# Altium integrated library Altium_WCAP-CSGP (rev19a).IntLib: 938 symbols (part 6 of 16)
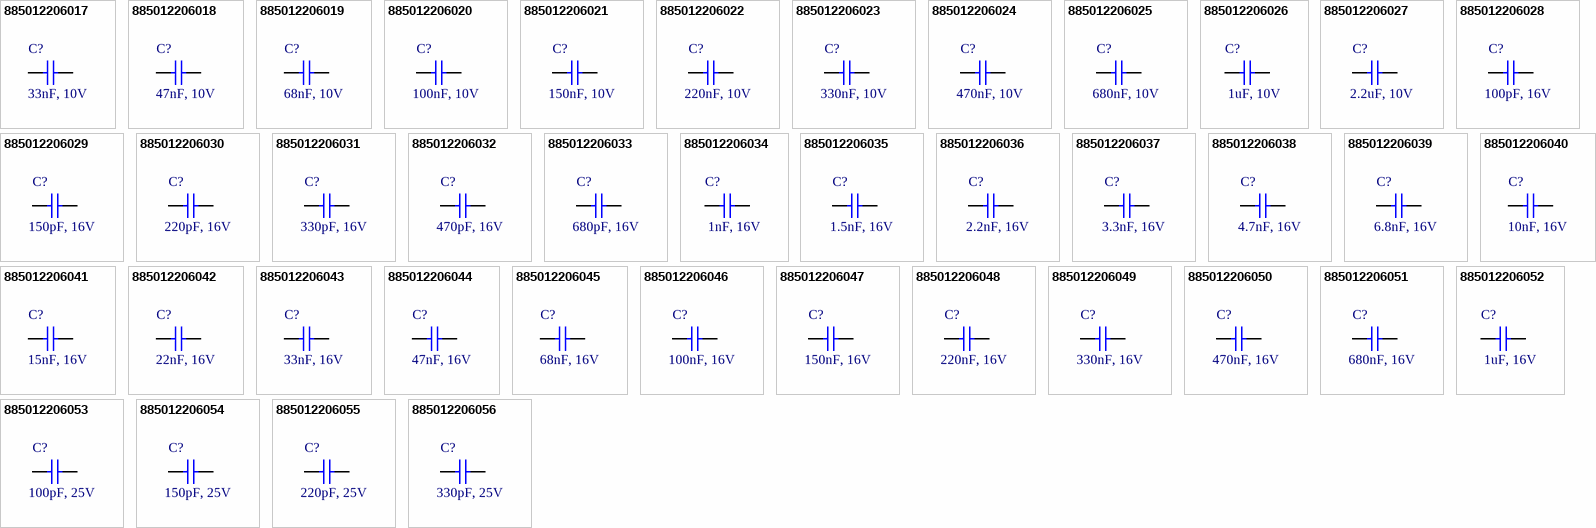
[diagram p32: symbols 885012206017 to 885012206056]

## 885012206045
designator C?, comment 68nF, 16V
WCAP-CSGP General Purpose Ceramic Capacitors, size 0603, 68nF, +/-10%, 16VDC; Part Number: 885012206045; Isolation Resistance: >=7.4GOhm; Ceramic Type: X7R; Technical Reference: X7R0603683K016DFCT10000; ComponentLink1Description: Manufacturer; ComponentLink1URL: http://www.we-online.de; ComponentLink2Description: Datasheet; ComponentLink2URL: https://katalog.we-online.com/pbs/datasheet/885012206045.pdf; Operating Temperature: -55 to +125degC; Packaging: Tape and Reel; Publisher: Wurth Elektronik; Rated Voltage: 16VDC; Published Date: August 2019; Capacitance Tolerance: +/-10%; Dissipation Factor: =<3.5%; Height: 0.8mm +/-0.07mm; Mounting Technology: SMD; Size: 0603; Capacitance: 68nF
footprint WCAP-CSGP_0603_Wave
footprint WCAP-CSGP_0603_Reflow
pins: 1, 2

## 885012206046
designator C?, comment 100nF, 16V
WCAP-CSGP General Purpose Ceramic Capacitors, size 0603, 100nF, +/-10%, 16VDC; Part Number: 885012206046; Isolation Resistance: >=5GOhm; Ceramic Type: X7R; Technical Reference: X7R0603104K016DFCT10000; ComponentLink1Description: Manufacturer; ComponentLink1URL: http://www.we-online.de; ComponentLink2Description: Datasheet; ComponentLink2URL: https://katalog.we-online.com/pbs/datasheet/885012206046.pdf; Operating Temperature: -55 to +125degC; Packaging: Tape and Reel; Publisher: Wurth Elektronik; Rated Voltage: 16VDC; Published Date: August 2019; Capacitance Tolerance: +/-10%; Dissipation Factor: =<3.5%; Height: 0.8mm +/-0.07mm; Mounting Technology: SMD; Size: 0603; Capacitance: 100nF
footprint WCAP-CSGP_0603_Wave
footprint WCAP-CSGP_0603_Reflow
pins: 1, 2

## 885012206047
designator C?, comment 150nF, 16V
WCAP-CSGP General Purpose Ceramic Capacitors, size 0603, 150nF, +/-10%, 16VDC; Part Number: 885012206047; Isolation Resistance: >=3.3GOhm; Ceramic Type: X7R; Technical Reference: X7R0603154K016DFCT10000; ComponentLink1Description: Manufacturer; ComponentLink1URL: http://www.we-online.de; ComponentLink2Description: Datasheet; ComponentLink2URL: https://katalog.we-online.com/pbs/datasheet/885012206047.pdf; Operating Temperature: -55 to +125degC; Packaging: Tape and Reel; Publisher: Wurth Elektronik; Rated Voltage: 16VDC; Published Date: August 2019; Capacitance Tolerance: +/-10%; Dissipation Factor: =<5%; Height: 0.8mm +/-0.07mm; Mounting Technology: SMD; Size: 0603; Capacitance: 150nF
footprint WCAP-CSGP_0603_Wave
footprint WCAP-CSGP_0603_Reflow
pins: 1, 2

## 885012206048
designator C?, comment 220nF, 16V
WCAP-CSGP General Purpose Ceramic Capacitors, size 0603, 220nF, +/-10%, 16VDC; Part Number: 885012206048; Isolation Resistance: >=2.3GOhm; Ceramic Type: X7R; Technical Reference: X7R0603224K016DFCT10000; ComponentLink1Description: Manufacturer; ComponentLink1URL: http://www.we-online.de; ComponentLink2Description: Datasheet; ComponentLink2URL: https://katalog.we-online.com/pbs/datasheet/885012206048.pdf; Operating Temperature: -55 to +125degC; Packaging: Tape and Reel; Publisher: Wurth Elektronik; Rated Voltage: 16VDC; Published Date: August 2019; Capacitance Tolerance: +/-10%; Dissipation Factor: =<5%; Height: 0.8mm +/-0.07mm; Mounting Technology: SMD; Size: 0603; Capacitance: 220nF
footprint WCAP-CSGP_0603_Wave
footprint WCAP-CSGP_0603_Reflow
pins: 1, 2

## 885012206049
designator C?, comment 330nF, 16V
WCAP-CSGP General Purpose Ceramic Capacitors, size 0603, 330nF, +/-10%, 16VDC; Part Number: 885012206049; Isolation Resistance: >=1.5GOhm; Ceramic Type: X7R; Technical Reference: X7R0603334K016DFCT10000; ComponentLink1Description: Manufacturer; ComponentLink1URL: http://www.we-online.de; ComponentLink2Description: Datasheet; ComponentLink2URL: https://katalog.we-online.com/pbs/datasheet/885012206049.pdf; Operating Temperature: -55 to +125degC; Packaging: Tape and Reel; Publisher: Wurth Elektronik; Rated Voltage: 16VDC; Published Date: August 2019; Capacitance Tolerance: +/-10%; Dissipation Factor: =<5%; Height: 0.8mm +0.15/-0.10mm; Mounting Technology: SMD; Size: 0603; Capacitance: 330nF
footprint WCAP-CSGP_0603_Wave
footprint WCAP-CSGP_0603_Reflow
pins: 1, 2

## 885012206050
designator C?, comment 470nF, 16V
WCAP-CSGP General Purpose Ceramic Capacitors, size 0603, 470nF, +/-10%, 16VDC; Part Number: 885012206050; Isolation Resistance: >=1.1GOhm; Ceramic Type: X7R; Technical Reference: X7R0603474K016DFCT10000; ComponentLink1Description: Manufacturer; ComponentLink1URL: http://www.we-online.de; ComponentLink2Description: Datasheet; ComponentLink2URL: https://katalog.we-online.com/pbs/datasheet/885012206050.pdf; Operating Temperature: -55 to +125degC; Packaging: Tape and Reel; Publisher: Wurth Elektronik; Rated Voltage: 16VDC; Published Date: August 2019; Capacitance Tolerance: +/-10%; Dissipation Factor: =<5%; Height: 0.8mm +0.15/-0.10mm; Mounting Technology: SMD; Size: 0603; Capacitance: 470nF
footprint WCAP-CSGP_0603_Wave
footprint WCAP-CSGP_0603_Reflow
pins: 1, 2

## 885012206051
designator C?, comment 680nF, 16V
WCAP-CSGP General Purpose Ceramic Capacitors, size 0603, 680nF, +/-10%, 16VDC; Part Number: 885012206051; Isolation Resistance: >=0.7GOhm; Ceramic Type: X7R; Technical Reference: X7R0603684K016DFCT10000; ComponentLink1Description: Manufacturer; ComponentLink1URL: http://www.we-online.de; ComponentLink2Description: Datasheet; ComponentLink2URL: https://katalog.we-online.com/pbs/datasheet/885012206051.pdf; Operating Temperature: -55 to +125degC; Packaging: Tape and Reel; Publisher: Wurth Elektronik; Rated Voltage: 16VDC; Published Date: August 2019; Capacitance Tolerance: +/-10%; Dissipation Factor: =<10%; Height: 0.8mm +0.15/-0.10mm; Mounting Technology: SMD; Size: 0603; Capacitance: 680nF
footprint WCAP-CSGP_0603_Wave
footprint WCAP-CSGP_0603_Reflow
pins: 1, 2

## 885012206052
designator C?, comment 1uF, 16V
WCAP-CSGP General Purpose Ceramic Capacitors, size 0603, 1uF, +/-10%, 16VDC; Part Number: 885012206052; Isolation Resistance: >=0.1GOhm; Ceramic Type: X7R; Technical Reference: X7R0603105K016DFCT10000; ComponentLink1Description: Manufacturer; ComponentLink1URL: http://www.we-online.de; ComponentLink2Description: Datasheet; ComponentLink2URL: https://katalog.we-online.com/pbs/datasheet/885012206052.pdf; Operating Temperature: -55 to +125degC; Packaging: Tape and Reel; Publisher: Wurth Elektronik; Rated Voltage: 16VDC; Published Date: August 2019; Capacitance Tolerance: +/-10%; Dissipation Factor: =<10%; Height: 0.8mm +0.15/-0.10mm; Mounting Technology: SMD; Size: 0603; Capacitance: 1uF
footprint WCAP-CSGP_0603_Wave
footprint WCAP-CSGP_0603_Reflow
pins: 1, 2

## 885012206053
designator C?, comment 100pF, 25V
WCAP-CSGP General Purpose Ceramic Capacitors, size 0603, 100pF, +/-10%, 25VDC; Part Number: 885012206053; Isolation Resistance: >=10GOhm; Ceramic Type: X7R; Technical Reference: X7R0603101K025DFCT10000; ComponentLink1Description: Manufacturer; ComponentLink1URL: http://www.we-online.de; ComponentLink2Description: Datasheet; ComponentLink2URL: https://katalog.we-online.com/pbs/datasheet/885012206053.pdf; Operating Temperature: -55 to +125degC; Packaging: Tape and Reel; Publisher: Wurth Elektronik; Rated Voltage: 25VDC; Published Date: August 2019; Capacitance Tolerance: +/-10%; Dissipation Factor: =<3.5%; Height: 0.8mm +/-0.07mm; Mounting Technology: SMD; Size: 0603; Capacitance: 100pF
footprint WCAP-CSGP_0603_Wave
footprint WCAP-CSGP_0603_Reflow
pins: 1, 2

## 885012206054
designator C?, comment 150pF, 25V
WCAP-CSGP General Purpose Ceramic Capacitors, size 0603, 150pF, +/-10%, 25VDC; Part Number: 885012206054; Isolation Resistance: >=10GOhm; Ceramic Type: X7R; Technical Reference: X7R0603151K025DFCT10000; ComponentLink1Description: Manufacturer; ComponentLink1URL: http://www.we-online.de; ComponentLink2Description: Datasheet; ComponentLink2URL: https://katalog.we-online.com/pbs/datasheet/885012206054.pdf; Operating Temperature: -55 to +125degC; Packaging: Tape and Reel; Publisher: Wurth Elektronik; Rated Voltage: 25VDC; Published Date: August 2019; Capacitance Tolerance: +/-10%; Dissipation Factor: =<3.5%; Height: 0.8mm +/-0.07mm; Mounting Technology: SMD; Size: 0603; Capacitance: 150pF
footprint WCAP-CSGP_0603_Wave
footprint WCAP-CSGP_0603_Reflow
pins: 1, 2

## 885012206055
designator C?, comment 220pF, 25V
WCAP-CSGP General Purpose Ceramic Capacitors, size 0603, 220pF, +/-10%, 25VDC; Part Number: 885012206055; Isolation Resistance: >=10GOhm; Ceramic Type: X7R; Technical Reference: X7R0603221K025DFCT10000; ComponentLink1Description: Manufacturer; ComponentLink1URL: http://www.we-online.de; ComponentLink2Description: Datasheet; ComponentLink2URL: https://katalog.we-online.com/pbs/datasheet/885012206055.pdf; Operating Temperature: -55 to +125degC; Packaging: Tape and Reel; Publisher: Wurth Elektronik; Rated Voltage: 25VDC; Published Date: August 2019; Capacitance Tolerance: +/-10%; Dissipation Factor: =<3.5%; Height: 0.8mm +/-0.07mm; Mounting Technology: SMD; Size: 0603; Capacitance: 220pF
footprint WCAP-CSGP_0603_Wave
footprint WCAP-CSGP_0603_Reflow
pins: 1, 2

## 885012206056
designator C?, comment 330pF, 25V
WCAP-CSGP General Purpose Ceramic Capacitors, size 0603, 330pF, +/-10%, 25VDC; Part Number: 885012206056; Isolation Resistance: >=10GOhm; Ceramic Type: X7R; Technical Reference: X7R0603331K025DFCT10000; ComponentLink1Description: Manufacturer; ComponentLink1URL: http://www.we-online.de; ComponentLink2Description: Datasheet; ComponentLink2URL: https://katalog.we-online.com/pbs/datasheet/885012206056.pdf; Operating Temperature: -55 to +125degC; Packaging: Tape and Reel; Publisher: Wurth Elektronik; Rated Voltage: 25VDC; Published Date: August 2019; Capacitance Tolerance: +/-10%; Dissipation Factor: =<3.5%; Height: 0.8mm +/-0.07mm; Mounting Technology: SMD; Size: 0603; Capacitance: 330pF
footprint WCAP-CSGP_0603_Wave
footprint WCAP-CSGP_0603_Reflow
pins: 1, 2

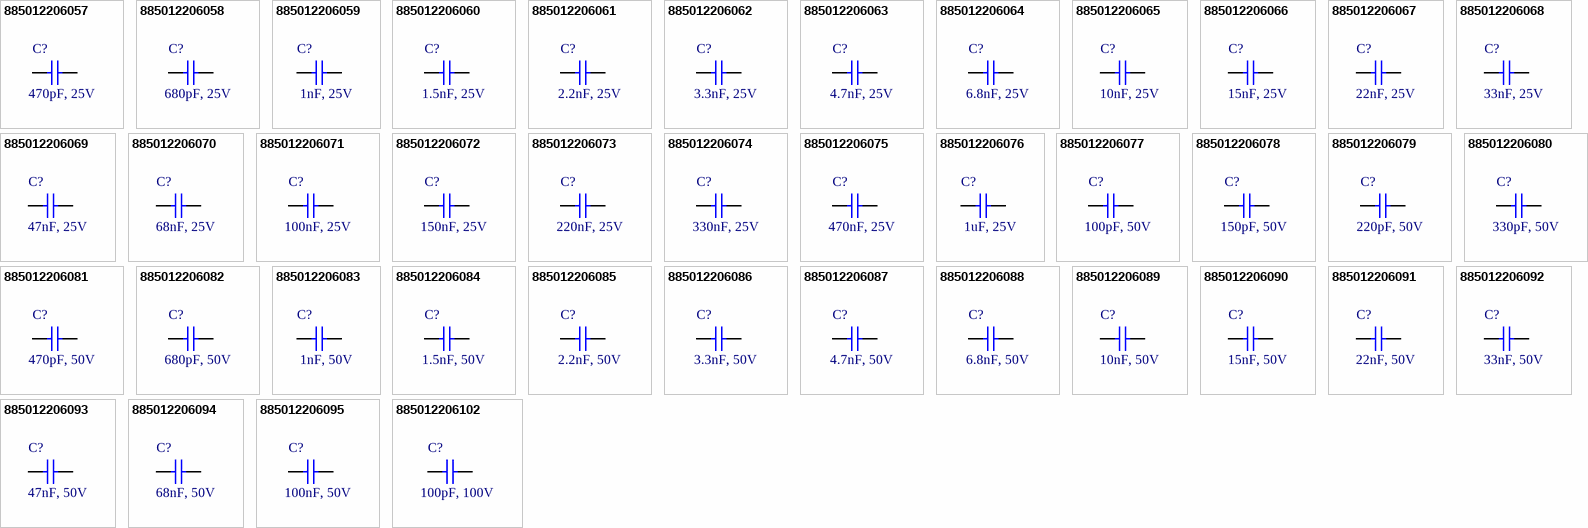
[diagram p9: symbols 885012206057 to 885012206102]

## 885012206057
designator C?, comment 470pF, 25V
WCAP-CSGP General Purpose Ceramic Capacitors, size 0603, 470pF, +/-10%, 25VDC; Part Number: 885012206057; Isolation Resistance: >=10GOhm; Ceramic Type: X7R; Technical Reference: X7R0603471K025DFCT10000; ComponentLink1Description: Manufacturer; ComponentLink1URL: http://www.we-online.de; ComponentLink2Description: Datasheet; ComponentLink2URL: https://katalog.we-online.com/pbs/datasheet/885012206057.pdf; Operating Temperature: -55 to +125degC; Packaging: Tape and Reel; Publisher: Wurth Elektronik; Rated Voltage: 25VDC; Published Date: August 2019; Capacitance Tolerance: +/-10%; Dissipation Factor: =<3.5%; Height: 0.8mm +/-0.07mm; Mounting Technology: SMD; Size: 0603; Capacitance: 470pF
footprint WCAP-CSGP_0603_Wave
footprint WCAP-CSGP_0603_Reflow
pins: 1, 2

## 885012206058
designator C?, comment 680pF, 25V
WCAP-CSGP General Purpose Ceramic Capacitors, size 0603, 680pF, +/-10%, 25VDC; Part Number: 885012206058; Isolation Resistance: >=10GOhm; Ceramic Type: X7R; Technical Reference: X7R0603681K025DFCT10000; ComponentLink1Description: Manufacturer; ComponentLink1URL: http://www.we-online.de; ComponentLink2Description: Datasheet; ComponentLink2URL: https://katalog.we-online.com/pbs/datasheet/885012206058.pdf; Operating Temperature: -55 to +125degC; Packaging: Tape and Reel; Publisher: Wurth Elektronik; Rated Voltage: 25VDC; Published Date: August 2019; Capacitance Tolerance: +/-10%; Dissipation Factor: =<3.5%; Height: 0.8mm +/-0.07mm; Mounting Technology: SMD; Size: 0603; Capacitance: 680pF
footprint WCAP-CSGP_0603_Wave
footprint WCAP-CSGP_0603_Reflow
pins: 1, 2

## 885012206059
designator C?, comment 1nF, 25V
WCAP-CSGP General Purpose Ceramic Capacitors, size 0603, 1nF, +/-10%, 25VDC; Part Number: 885012206059; Isolation Resistance: >=10GOhm; Ceramic Type: X7R; Technical Reference: X7R0603102K025DFCT10000; ComponentLink1Description: Manufacturer; ComponentLink1URL: http://www.we-online.de; ComponentLink2Description: Datasheet; ComponentLink2URL: https://katalog.we-online.com/pbs/datasheet/885012206059.pdf; Operating Temperature: -55 to +125degC; Packaging: Tape and Reel; Publisher: Wurth Elektronik; Rated Voltage: 25VDC; Published Date: August 2019; Capacitance Tolerance: +/-10%; Dissipation Factor: =<3.5%; Height: 0.8mm +/-0.07mm; Mounting Technology: SMD; Size: 0603; Capacitance: 1nF
footprint WCAP-CSGP_0603_Wave
footprint WCAP-CSGP_0603_Reflow
pins: 1, 2

## 885012206060
designator C?, comment 1.5nF, 25V
WCAP-CSGP General Purpose Ceramic Capacitors, size 0603, 1.5nF, +/-10%, 25VDC; Part Number: 885012206060; Isolation Resistance: >=10GOhm; Ceramic Type: X7R; Technical Reference: X7R0603152K025DFCT10000; ComponentLink1Description: Manufacturer; ComponentLink1URL: http://www.we-online.de; ComponentLink2Description: Datasheet; ComponentLink2URL: https://katalog.we-online.com/pbs/datasheet/885012206060.pdf; Operating Temperature: -55 to +125degC; Packaging: Tape and Reel; Publisher: Wurth Elektronik; Rated Voltage: 25VDC; Published Date: August 2019; Capacitance Tolerance: +/-10%; Dissipation Factor: =<3.5%; Height: 0.8mm +/-0.07mm; Mounting Technology: SMD; Size: 0603; Capacitance: 1.5nF
footprint WCAP-CSGP_0603_Wave
footprint WCAP-CSGP_0603_Reflow
pins: 1, 2

## 885012206061
designator C?, comment 2.2nF, 25V
WCAP-CSGP General Purpose Ceramic Capacitors, size 0603, 2.2nF, +/-10%, 25VDC; Part Number: 885012206061; Isolation Resistance: >=10GOhm; Ceramic Type: X7R; Technical Reference: X7R0603222K025DFCT10000; ComponentLink1Description: Manufacturer; ComponentLink1URL: http://www.we-online.de; ComponentLink2Description: Datasheet; ComponentLink2URL: https://katalog.we-online.com/pbs/datasheet/885012206061.pdf; Operating Temperature: -55 to +125degC; Packaging: Tape and Reel; Publisher: Wurth Elektronik; Rated Voltage: 25VDC; Published Date: August 2019; Capacitance Tolerance: +/-10%; Dissipation Factor: =<3.5%; Height: 0.8mm +/-0.07mm; Mounting Technology: SMD; Size: 0603; Capacitance: 2.2nF
footprint WCAP-CSGP_0603_Wave
footprint WCAP-CSGP_0603_Reflow
pins: 1, 2

## 885012206062
designator C?, comment 3.3nF, 25V
WCAP-CSGP General Purpose Ceramic Capacitors, size 0603, 3.3nF, +/-10%, 25VDC; Part Number: 885012206062; Isolation Resistance: >=10GOhm; Ceramic Type: X7R; Technical Reference: X7R0603332K025DFCT10000; ComponentLink1Description: Manufacturer; ComponentLink1URL: http://www.we-online.de; ComponentLink2Description: Datasheet; ComponentLink2URL: https://katalog.we-online.com/pbs/datasheet/885012206062.pdf; Operating Temperature: -55 to +125degC; Packaging: Tape and Reel; Publisher: Wurth Elektronik; Rated Voltage: 25VDC; Published Date: August 2019; Capacitance Tolerance: +/-10%; Dissipation Factor: =<3.5%; Height: 0.8mm +/-0.07mm; Mounting Technology: SMD; Size: 0603; Capacitance: 3.3nF
footprint WCAP-CSGP_0603_Wave
footprint WCAP-CSGP_0603_Reflow
pins: 1, 2

## 885012206063
designator C?, comment 4.7nF, 25V
WCAP-CSGP General Purpose Ceramic Capacitors, size 0603, 4.7nF, +/-10%, 25VDC; Part Number: 885012206063; Isolation Resistance: >=10GOhm; Ceramic Type: X7R; Technical Reference: X7R0603472K025DFCT10000; ComponentLink1Description: Manufacturer; ComponentLink1URL: http://www.we-online.de; ComponentLink2Description: Datasheet; ComponentLink2URL: https://katalog.we-online.com/pbs/datasheet/885012206063.pdf; Operating Temperature: -55 to +125degC; Packaging: Tape and Reel; Publisher: Wurth Elektronik; Rated Voltage: 25VDC; Published Date: August 2019; Capacitance Tolerance: +/-10%; Dissipation Factor: =<3.5%; Height: 0.8mm +/-0.07mm; Mounting Technology: SMD; Size: 0603; Capacitance: 4.7nF
footprint WCAP-CSGP_0603_Wave
footprint WCAP-CSGP_0603_Reflow
pins: 1, 2

## 885012206064
designator C?, comment 6.8nF, 25V
WCAP-CSGP General Purpose Ceramic Capacitors, size 0603, 6.8nF, +/-10%, 25VDC; Part Number: 885012206064; Isolation Resistance: >=10GOhm; Ceramic Type: X7R; Technical Reference: X7R0603682K025DFCT10000; ComponentLink1Description: Manufacturer; ComponentLink1URL: http://www.we-online.de; ComponentLink2Description: Datasheet; ComponentLink2URL: https://katalog.we-online.com/pbs/datasheet/885012206064.pdf; Operating Temperature: -55 to +125degC; Packaging: Tape and Reel; Publisher: Wurth Elektronik; Rated Voltage: 25VDC; Published Date: August 2019; Capacitance Tolerance: +/-10%; Dissipation Factor: =<3.5%; Height: 0.8mm +/-0.07mm; Mounting Technology: SMD; Size: 0603; Capacitance: 6.8nF
footprint WCAP-CSGP_0603_Wave
footprint WCAP-CSGP_0603_Reflow
pins: 1, 2

## 885012206065
designator C?, comment 10nF, 25V
WCAP-CSGP General Purpose Ceramic Capacitors, size 0603, 10nF, +/-10%, 25VDC; Part Number: 885012206065; Isolation Resistance: >=10GOhm; Ceramic Type: X7R; Technical Reference: X7R0603103K025DFCT10000; ComponentLink1Description: Manufacturer; ComponentLink1URL: http://www.we-online.de; ComponentLink2Description: Datasheet; ComponentLink2URL: https://katalog.we-online.com/pbs/datasheet/885012206065.pdf; Operating Temperature: -55 to +125degC; Packaging: Tape and Reel; Publisher: Wurth Elektronik; Rated Voltage: 25VDC; Published Date: August 2019; Capacitance Tolerance: +/-10%; Dissipation Factor: =<3.5%; Height: 0.8mm +/-0.07mm; Mounting Technology: SMD; Size: 0603; Capacitance: 10nF
footprint WCAP-CSGP_0603_Wave
footprint WCAP-CSGP_0603_Reflow
pins: 1, 2

## 885012206066
designator C?, comment 15nF, 25V
WCAP-CSGP General Purpose Ceramic Capacitors, size 0603, 15nF, +/-10%, 25VDC; Part Number: 885012206066; Isolation Resistance: >=10GOhm; Ceramic Type: X7R; Technical Reference: X7R0603153K025DFCT10000; ComponentLink1Description: Manufacturer; ComponentLink1URL: http://www.we-online.de; ComponentLink2Description: Datasheet; ComponentLink2URL: https://katalog.we-online.com/pbs/datasheet/885012206066.pdf; Operating Temperature: -55 to +125degC; Packaging: Tape and Reel; Publisher: Wurth Elektronik; Rated Voltage: 25VDC; Published Date: August 2019; Capacitance Tolerance: +/-10%; Dissipation Factor: =<3.5%; Height: 0.8mm +/-0.07mm; Mounting Technology: SMD; Size: 0603; Capacitance: 15nF
footprint WCAP-CSGP_0603_Wave
footprint WCAP-CSGP_0603_Reflow
pins: 1, 2

## 885012206067
designator C?, comment 22nF, 25V
WCAP-CSGP General Purpose Ceramic Capacitors, size 0603, 22nF, +/-10%, 25VDC; Part Number: 885012206067; Isolation Resistance: >=10GOhm; Ceramic Type: X7R; Technical Reference: X7R0603223K025DFCT10000; ComponentLink1Description: Manufacturer; ComponentLink1URL: http://www.we-online.de; ComponentLink2Description: Datasheet; ComponentLink2URL: https://katalog.we-online.com/pbs/datasheet/885012206067.pdf; Operating Temperature: -55 to +125degC; Packaging: Tape and Reel; Publisher: Wurth Elektronik; Rated Voltage: 25VDC; Published Date: August 2019; Capacitance Tolerance: +/-10%; Dissipation Factor: =<3.5%; Height: 0.8mm +/-0.07mm; Mounting Technology: SMD; Size: 0603; Capacitance: 22nF
footprint WCAP-CSGP_0603_Wave
footprint WCAP-CSGP_0603_Reflow
pins: 1, 2

## 885012206068
designator C?, comment 33nF, 25V
WCAP-CSGP General Purpose Ceramic Capacitors, size 0603, 33nF, +/-10%, 25VDC; Part Number: 885012206068; Isolation Resistance: >=10GOhm; Ceramic Type: X7R; Technical Reference: X7R0603333K025DFCT10000; ComponentLink1Description: Manufacturer; ComponentLink1URL: http://www.we-online.de; ComponentLink2Description: Datasheet; ComponentLink2URL: https://katalog.we-online.com/pbs/datasheet/885012206068.pdf; Operating Temperature: -55 to +125degC; Packaging: Tape and Reel; Publisher: Wurth Elektronik; Rated Voltage: 25VDC; Published Date: August 2019; Capacitance Tolerance: +/-10%; Dissipation Factor: =<3.5%; Height: 0.8mm +/-0.07mm; Mounting Technology: SMD; Size: 0603; Capacitance: 33nF
footprint WCAP-CSGP_0603_Wave
footprint WCAP-CSGP_0603_Reflow
pins: 1, 2

## 885012206069
designator C?, comment 47nF, 25V
WCAP-CSGP General Purpose Ceramic Capacitors, size 0603, 47nF, +/-10%, 25VDC; Part Number: 885012206069; Isolation Resistance: >=10GOhm; Ceramic Type: X7R; Technical Reference: X7R0603473K025DFCT10000; ComponentLink1Description: Manufacturer; ComponentLink1URL: http://www.we-online.de; ComponentLink2Description: Datasheet; ComponentLink2URL: https://katalog.we-online.com/pbs/datasheet/885012206069.pdf; Operating Temperature: -55 to +125degC; Packaging: Tape and Reel; Publisher: Wurth Elektronik; Rated Voltage: 25VDC; Published Date: August 2019; Capacitance Tolerance: +/-10%; Dissipation Factor: =<3.5%; Height: 0.8mm +/-0.07mm; Mounting Technology: SMD; Size: 0603; Capacitance: 47nF
footprint WCAP-CSGP_0603_Wave
footprint WCAP-CSGP_0603_Reflow
pins: 1, 2

## 885012206070
designator C?, comment 68nF, 25V
WCAP-CSGP General Purpose Ceramic Capacitors, size 0603, 68nF, +/-10%, 25VDC; Part Number: 885012206070; Isolation Resistance: >=7.4GOhm; Ceramic Type: X7R; Technical Reference: X7R0603683K025DFCT10000; ComponentLink1Description: Manufacturer; ComponentLink1URL: http://www.we-online.de; ComponentLink2Description: Datasheet; ComponentLink2URL: https://katalog.we-online.com/pbs/datasheet/885012206070.pdf; Operating Temperature: -55 to +125degC; Packaging: Tape and Reel; Publisher: Wurth Elektronik; Rated Voltage: 25VDC; Published Date: August 2019; Capacitance Tolerance: +/-10%; Dissipation Factor: =<3.5%; Height: 0.8mm +/-0.07mm; Mounting Technology: SMD; Size: 0603; Capacitance: 68nF
footprint WCAP-CSGP_0603_Wave
footprint WCAP-CSGP_0603_Reflow
pins: 1, 2

## 885012206071
designator C?, comment 100nF, 25V
WCAP-CSGP General Purpose Ceramic Capacitors, size 0603, 100nF, +/-10%, 25VDC; Part Number: 885012206071; Isolation Resistance: >=5GOhm; Ceramic Type: X7R; Technical Reference: X7R0603104K025DFCT10000; ComponentLink1Description: Manufacturer; ComponentLink1URL: http://www.we-online.de; ComponentLink2Description: Datasheet; ComponentLink2URL: https://katalog.we-online.com/pbs/datasheet/885012206071.pdf; Operating Temperature: -55 to +125degC; Packaging: Tape and Reel; Publisher: Wurth Elektronik; Rated Voltage: 25VDC; Published Date: August 2019; Capacitance Tolerance: +/-10%; Dissipation Factor: =<3.5%; Height: 0.8mm +/-0.07mm; Mounting Technology: SMD; Size: 0603; Capacitance: 100nF
footprint WCAP-CSGP_0603_Wave
footprint WCAP-CSGP_0603_Reflow
pins: 1, 2

## 885012206072
designator C?, comment 150nF, 25V
WCAP-CSGP General Purpose Ceramic Capacitors, size 0603, 150nF, +/-10%, 25VDC; Part Number: 885012206072; Isolation Resistance: >=3.3GOhm; Ceramic Type: X7R; Technical Reference: X7R0603154K025DFCT10000; ComponentLink1Description: Manufacturer; ComponentLink1URL: http://www.we-online.de; ComponentLink2Description: Datasheet; ComponentLink2URL: https://katalog.we-online.com/pbs/datasheet/885012206072.pdf; Operating Temperature: -55 to +125degC; Packaging: Tape and Reel; Publisher: Wurth Elektronik; Rated Voltage: 25VDC; Published Date: August 2019; Capacitance Tolerance: +/-10%; Dissipation Factor: =<3.5%; Height: 0.8mm +0.15/-0.10mm; Mounting Technology: SMD; Size: 0603; Capacitance: 150nF
footprint WCAP-CSGP_0603_Wave
footprint WCAP-CSGP_0603_Reflow
pins: 1, 2

## 885012206073
designator C?, comment 220nF, 25V
WCAP-CSGP General Purpose Ceramic Capacitors, size 0603, 220nF, +/-10%, 25VDC; Part Number: 885012206073; Isolation Resistance: >=2.3GOhm; Ceramic Type: X7R; Technical Reference: X7R0603224K025DFCT10000; ComponentLink1Description: Manufacturer; ComponentLink1URL: http://www.we-online.de; ComponentLink2Description: Datasheet; ComponentLink2URL: https://katalog.we-online.com/pbs/datasheet/885012206073.pdf; Operating Temperature: -55 to +125degC; Packaging: Tape and Reel; Publisher: Wurth Elektronik; Rated Voltage: 25VDC; Published Date: August 2019; Capacitance Tolerance: +/-10%; Dissipation Factor: =<3.5%; Height: 0.8mm +0.15/-0.10mm; Mounting Technology: SMD; Size: 0603; Capacitance: 220nF
footprint WCAP-CSGP_0603_Wave
footprint WCAP-CSGP_0603_Reflow
pins: 1, 2

## 885012206074
designator C?, comment 330nF, 25V
WCAP-CSGP General Purpose Ceramic Capacitors, size 0603, 330nF, +/-10%, 25VDC; Part Number: 885012206074; Isolation Resistance: >=1.5GOhm; Ceramic Type: X7R; Technical Reference: X7R0603334K025DFCT10000; ComponentLink1Description: Manufacturer; ComponentLink1URL: http://www.we-online.de; ComponentLink2Description: Datasheet; ComponentLink2URL: https://katalog.we-online.com/pbs/datasheet/885012206074.pdf; Operating Temperature: -55 to +125degC; Packaging: Tape and Reel; Publisher: Wurth Elektronik; Rated Voltage: 25VDC; Published Date: August 2019; Capacitance Tolerance: +/-10%; Dissipation Factor: =<7%; Height: 0.8mm +0.15/-0.10mm; Mounting Technology: SMD; Size: 0603; Capacitance: 330nF
footprint WCAP-CSGP_0603_Wave
footprint WCAP-CSGP_0603_Reflow
pins: 1, 2

## 885012206075
designator C?, comment 470nF, 25V
WCAP-CSGP General Purpose Ceramic Capacitors, size 0603, 470nF, +/-10%, 25VDC; Part Number: 885012206075; Isolation Resistance: >=1.1GOhm; Ceramic Type: X7R; Technical Reference: X7R0603474K025DFCT10000; ComponentLink1Description: Manufacturer; ComponentLink1URL: http://www.we-online.de; ComponentLink2Description: Datasheet; ComponentLink2URL: https://katalog.we-online.com/pbs/datasheet/885012206075.pdf; Operating Temperature: -55 to +125degC; Packaging: Tape and Reel; Publisher: Wurth Elektronik; Rated Voltage: 25VDC; Published Date: August 2019; Capacitance Tolerance: +/-10%; Dissipation Factor: =<10%; Height: 0.8mm +0.15/-0.10mm; Mounting Technology: SMD; Size: 0603; Capacitance: 470nF
footprint WCAP-CSGP_0603_Wave
footprint WCAP-CSGP_0603_Reflow
pins: 1, 2

## 885012206076
designator C?, comment 1uF, 25V
WCAP-CSGP General Purpose Ceramic Capacitors, size 0603, 1uF, +/-10%, 25VDC; Part Number: 885012206076; Isolation Resistance: >=0.5GOhm; Ceramic Type: X7R; Technical Reference: X7R0603105K025DFCT10000; ComponentLink1Description: Manufacturer; ComponentLink1URL: http://www.we-online.de; ComponentLink2Description: Datasheet; ComponentLink2URL: https://katalog.we-online.com/pbs/datasheet/885012206076.pdf; Operating Temperature: -55 to +125degC; Packaging: Tape and Reel; Publisher: Wurth Elektronik; Rated Voltage: 25VDC; Published Date: August 2019; Capacitance Tolerance: +/-10%; Dissipation Factor: =<10%; Height: 0.8mm +/-0.20mm; Mounting Technology: SMD; Size: 0603; Capacitance: 1uF
footprint WCAP-CSGP_0603_Wave
footprint WCAP-CSGP_0603_Reflow
pins: 1, 2

## 885012206077
designator C?, comment 100pF, 50V
WCAP-CSGP General Purpose Ceramic Capacitors, size 0603, 100pF, +/-10%, 50VDC; Part Number: 885012206077; Isolation Resistance: >=10GOhm; Ceramic Type: X7R; Technical Reference: X7R0603101K050DFCT10000; ComponentLink1Description: Manufacturer; ComponentLink1URL: http://www.we-online.de; ComponentLink2Description: Datasheet; ComponentLink2URL: https://katalog.we-online.com/pbs/datasheet/885012206077.pdf; Operating Temperature: -55 to +125degC; Packaging: Tape and Reel; Publisher: Wurth Elektronik; Rated Voltage: 50VDC; Published Date: August 2019; Capacitance Tolerance: +/-10%; Dissipation Factor: =<2.5%; Height: 0.8mm +/-0.07mm; Mounting Technology: SMD; Size: 0603; Capacitance: 100pF
footprint WCAP-CSGP_0603_Wave
footprint WCAP-CSGP_0603_Reflow
pins: 1, 2

## 885012206078
designator C?, comment 150pF, 50V
WCAP-CSGP General Purpose Ceramic Capacitors, size 0603, 150pF, +/-10%, 50VDC; Part Number: 885012206078; Isolation Resistance: >=10GOhm; Ceramic Type: X7R; Technical Reference: X7R0603151K050DFCT10000; ComponentLink1Description: Manufacturer; ComponentLink1URL: http://www.we-online.de; ComponentLink2Description: Datasheet; ComponentLink2URL: https://katalog.we-online.com/pbs/datasheet/885012206078.pdf; Operating Temperature: -55 to +125degC; Packaging: Tape and Reel; Publisher: Wurth Elektronik; Rated Voltage: 50VDC; Published Date: August 2019; Capacitance Tolerance: +/-10%; Dissipation Factor: =<2.5%; Height: 0.8mm +/-0.07mm; Mounting Technology: SMD; Size: 0603; Capacitance: 150pF
footprint WCAP-CSGP_0603_Wave
footprint WCAP-CSGP_0603_Reflow
pins: 1, 2

## 885012206079
designator C?, comment 220pF, 50V
WCAP-CSGP General Purpose Ceramic Capacitors, size 0603, 220pF, +/-10%, 50VDC; Part Number: 885012206079; Isolation Resistance: >=10GOhm; Ceramic Type: X7R; Technical Reference: X7R0603221K050DFCT10000; ComponentLink1Description: Manufacturer; ComponentLink1URL: http://www.we-online.de; ComponentLink2Description: Datasheet; ComponentLink2URL: https://katalog.we-online.com/pbs/datasheet/885012206079.pdf; Operating Temperature: -55 to +125degC; Packaging: Tape and Reel; Publisher: Wurth Elektronik; Rated Voltage: 50VDC; Published Date: August 2019; Capacitance Tolerance: +/-10%; Dissipation Factor: =<2.5%; Height: 0.8mm +/-0.07mm; Mounting Technology: SMD; Size: 0603; Capacitance: 220pF
footprint WCAP-CSGP_0603_Wave
footprint WCAP-CSGP_0603_Reflow
pins: 1, 2

## 885012206080
designator C?, comment 330pF, 50V
WCAP-CSGP General Purpose Ceramic Capacitors, size 0603, 330pF, +/-10%, 50VDC; Part Number: 885012206080; Isolation Resistance: >=10GOhm; Ceramic Type: X7R; Technical Reference: X7R0603331K050DFCT10000; ComponentLink1Description: Manufacturer; ComponentLink1URL: http://www.we-online.de; ComponentLink2Description: Datasheet; ComponentLink2URL: https://katalog.we-online.com/pbs/datasheet/885012206080.pdf; Operating Temperature: -55 to +125degC; Packaging: Tape and Reel; Publisher: Wurth Elektronik; Rated Voltage: 50VDC; Published Date: August 2019; Capacitance Tolerance: +/-10%; Dissipation Factor: =<2.5%; Height: 0.8mm +/-0.07mm; Mounting Technology: SMD; Size: 0603; Capacitance: 330pF
footprint WCAP-CSGP_0603_Wave
footprint WCAP-CSGP_0603_Reflow
pins: 1, 2

## 885012206081
designator C?, comment 470pF, 50V
WCAP-CSGP General Purpose Ceramic Capacitors, size 0603, 470pF, +/-10%, 50VDC; Part Number: 885012206081; Isolation Resistance: >=10GOhm; Ceramic Type: X7R; Technical Reference: X7R0603471K050DFCT10000; ComponentLink1Description: Manufacturer; ComponentLink1URL: http://www.we-online.de; ComponentLink2Description: Datasheet; ComponentLink2URL: https://katalog.we-online.com/pbs/datasheet/885012206081.pdf; Operating Temperature: -55 to +125degC; Packaging: Tape and Reel; Publisher: Wurth Elektronik; Rated Voltage: 50VDC; Published Date: August 2019; Capacitance Tolerance: +/-10%; Dissipation Factor: =<2.5%; Height: 0.8mm +/-0.07mm; Mounting Technology: SMD; Size: 0603; Capacitance: 470pF
footprint WCAP-CSGP_0603_Wave
footprint WCAP-CSGP_0603_Reflow
pins: 1, 2

## 885012206082
designator C?, comment 680pF, 50V
WCAP-CSGP General Purpose Ceramic Capacitors, size 0603, 680pF, +/-10%, 50VDC; Part Number: 885012206082; Isolation Resistance: >=10GOhm; Ceramic Type: X7R; Technical Reference: X7R0603681K050DFCT10000; ComponentLink1Description: Manufacturer; ComponentLink1URL: http://www.we-online.de; ComponentLink2Description: Datasheet; ComponentLink2URL: https://katalog.we-online.com/pbs/datasheet/885012206082.pdf; Operating Temperature: -55 to +125degC; Packaging: Tape and Reel; Publisher: Wurth Elektronik; Rated Voltage: 50VDC; Published Date: August 2019; Capacitance Tolerance: +/-10%; Dissipation Factor: =<2.5%; Height: 0.8mm +/-0.07mm; Mounting Technology: SMD; Size: 0603; Capacitance: 680pF
footprint WCAP-CSGP_0603_Wave
footprint WCAP-CSGP_0603_Reflow
pins: 1, 2

## 885012206083
designator C?, comment 1nF, 50V
WCAP-CSGP General Purpose Ceramic Capacitors, size 0603, 1nF, +/-10%, 50VDC; Part Number: 885012206083; Isolation Resistance: >=10GOhm; Ceramic Type: X7R; Technical Reference: X7R0603102K050DFCT10000; ComponentLink1Description: Manufacturer; ComponentLink1URL: http://www.we-online.de; ComponentLink2Description: Datasheet; ComponentLink2URL: https://katalog.we-online.com/pbs/datasheet/885012206083.pdf; Operating Temperature: -55 to +125degC; Packaging: Tape and Reel; Publisher: Wurth Elektronik; Rated Voltage: 50VDC; Published Date: August 2019; Capacitance Tolerance: +/-10%; Dissipation Factor: =<2.5%; Height: 0.8mm +/-0.07mm; Mounting Technology: SMD; Size: 0603; Capacitance: 1nF
footprint WCAP-CSGP_0603_Wave
footprint WCAP-CSGP_0603_Reflow
pins: 1, 2

## 885012206084
designator C?, comment 1.5nF, 50V
WCAP-CSGP General Purpose Ceramic Capacitors, size 0603, 1.5nF, +/-10%, 50VDC; Part Number: 885012206084; Isolation Resistance: >=10GOhm; Ceramic Type: X7R; Technical Reference: X7R0603152K050DFCT10000; ComponentLink1Description: Manufacturer; ComponentLink1URL: http://www.we-online.de; ComponentLink2Description: Datasheet; ComponentLink2URL: https://katalog.we-online.com/pbs/datasheet/885012206084.pdf; Operating Temperature: -55 to +125degC; Packaging: Tape and Reel; Publisher: Wurth Elektronik; Rated Voltage: 50VDC; Published Date: August 2019; Capacitance Tolerance: +/-10%; Dissipation Factor: =<2.5%; Height: 0.8mm +/-0.07mm; Mounting Technology: SMD; Size: 0603; Capacitance: 1.5nF
footprint WCAP-CSGP_0603_Wave
footprint WCAP-CSGP_0603_Reflow
pins: 1, 2

## 885012206085
designator C?, comment 2.2nF, 50V
WCAP-CSGP General Purpose Ceramic Capacitors, size 0603, 2.2nF, +/-10%, 50VDC; Part Number: 885012206085; Isolation Resistance: >=10GOhm; Ceramic Type: X7R; Technical Reference: X7R0603222K050DFCT10000; ComponentLink1Description: Manufacturer; ComponentLink1URL: http://www.we-online.de; ComponentLink2Description: Datasheet; ComponentLink2URL: https://katalog.we-online.com/pbs/datasheet/885012206085.pdf; Operating Temperature: -55 to +125degC; Packaging: Tape and Reel; Publisher: Wurth Elektronik; Rated Voltage: 50VDC; Published Date: August 2019; Capacitance Tolerance: +/-10%; Dissipation Factor: =<2.5%; Height: 0.8mm +/-0.07mm; Mounting Technology: SMD; Size: 0603; Capacitance: 2.2nF
footprint WCAP-CSGP_0603_Wave
footprint WCAP-CSGP_0603_Reflow
pins: 1, 2

## 885012206086
designator C?, comment 3.3nF, 50V
WCAP-CSGP General Purpose Ceramic Capacitors, size 0603, 3.3nF, +/-10%, 50VDC; Part Number: 885012206086; Isolation Resistance: >=10GOhm; Ceramic Type: X7R; Technical Reference: X7R0603332K050DFCT10000; ComponentLink1Description: Manufacturer; ComponentLink1URL: http://www.we-online.de; ComponentLink2Description: Datasheet; ComponentLink2URL: https://katalog.we-online.com/pbs/datasheet/885012206086.pdf; Operating Temperature: -55 to +125degC; Packaging: Tape and Reel; Publisher: Wurth Elektronik; Rated Voltage: 50VDC; Published Date: August 2019; Capacitance Tolerance: +/-10%; Dissipation Factor: =<2.5%; Height: 0.8mm +/-0.07mm; Mounting Technology: SMD; Size: 0603; Capacitance: 3.3nF
footprint WCAP-CSGP_0603_Wave
footprint WCAP-CSGP_0603_Reflow
pins: 1, 2

## 885012206087
designator C?, comment 4.7nF, 50V
WCAP-CSGP General Purpose Ceramic Capacitors, size 0603, 4.7nF, +/-10%, 50VDC; Part Number: 885012206087; Isolation Resistance: >=10GOhm; Ceramic Type: X7R; Technical Reference: X7R0603472K050DFCT10000; ComponentLink1Description: Manufacturer; ComponentLink1URL: http://www.we-online.de; ComponentLink2Description: Datasheet; ComponentLink2URL: https://katalog.we-online.com/pbs/datasheet/885012206087.pdf; Operating Temperature: -55 to +125degC; Packaging: Tape and Reel; Publisher: Wurth Elektronik; Rated Voltage: 50VDC; Published Date: August 2019; Capacitance Tolerance: +/-10%; Dissipation Factor: =<2.5%; Height: 0.8mm +/-0.07mm; Mounting Technology: SMD; Size: 0603; Capacitance: 4.7nF
footprint WCAP-CSGP_0603_Wave
footprint WCAP-CSGP_0603_Reflow
pins: 1, 2

## 885012206088
designator C?, comment 6.8nF, 50V
WCAP-CSGP General Purpose Ceramic Capacitors, size 0603, 6.8nF, +/-10%, 50VDC; Part Number: 885012206088; Isolation Resistance: >=10GOhm; Ceramic Type: X7R; Technical Reference: X7R0603682K050DFCT10000; ComponentLink1Description: Manufacturer; ComponentLink1URL: http://www.we-online.de; ComponentLink2Description: Datasheet; ComponentLink2URL: https://katalog.we-online.com/pbs/datasheet/885012206088.pdf; Operating Temperature: -55 to +125degC; Packaging: Tape and Reel; Publisher: Wurth Elektronik; Rated Voltage: 50VDC; Published Date: August 2019; Capacitance Tolerance: +/-10%; Dissipation Factor: =<2.5%; Height: 0.8mm +/-0.07mm; Mounting Technology: SMD; Size: 0603; Capacitance: 6.8nF
footprint WCAP-CSGP_0603_Wave
footprint WCAP-CSGP_0603_Reflow
pins: 1, 2

## 885012206089
designator C?, comment 10nF, 50V
WCAP-CSGP General Purpose Ceramic Capacitors, size 0603, 10nF, +/-10%, 50VDC; Part Number: 885012206089; Isolation Resistance: >=10GOhm; Ceramic Type: X7R; Technical Reference: X7R0603103K050DFCT10000; ComponentLink1Description: Manufacturer; ComponentLink1URL: http://www.we-online.de; ComponentLink2Description: Datasheet; ComponentLink2URL: https://katalog.we-online.com/pbs/datasheet/885012206089.pdf; Operating Temperature: -55 to +125degC; Packaging: Tape and Reel; Publisher: Wurth Elektronik; Rated Voltage: 50VDC; Published Date: August 2019; Capacitance Tolerance: +/-10%; Dissipation Factor: =<2.5%; Height: 0.8mm +/-0.07mm; Mounting Technology: SMD; Size: 0603; Capacitance: 10nF
footprint WCAP-CSGP_0603_Wave
footprint WCAP-CSGP_0603_Reflow
pins: 1, 2

## 885012206090
designator C?, comment 15nF, 50V
WCAP-CSGP General Purpose Ceramic Capacitors, size 0603, 15nF, +/-10%, 50VDC; Part Number: 885012206090; Isolation Resistance: >=10GOhm; Ceramic Type: X7R; Technical Reference: X7R0603153K050DFCT10000; ComponentLink1Description: Manufacturer; ComponentLink1URL: http://www.we-online.de; ComponentLink2Description: Datasheet; ComponentLink2URL: https://katalog.we-online.com/pbs/datasheet/885012206090.pdf; Operating Temperature: -55 to +125degC; Packaging: Tape and Reel; Publisher: Wurth Elektronik; Rated Voltage: 50VDC; Published Date: August 2019; Capacitance Tolerance: +/-10%; Dissipation Factor: =<2.5%; Height: 0.8mm +/-0.07mm; Mounting Technology: SMD; Size: 0603; Capacitance: 15nF
footprint WCAP-CSGP_0603_Wave
footprint WCAP-CSGP_0603_Reflow
pins: 1, 2

## 885012206091
designator C?, comment 22nF, 50V
WCAP-CSGP General Purpose Ceramic Capacitors, size 0603, 22nF, +/-10%, 50VDC; Part Number: 885012206091; Isolation Resistance: >=10GOhm; Ceramic Type: X7R; Technical Reference: X7R0603223K050DFCT10000; ComponentLink1Description: Manufacturer; ComponentLink1URL: http://www.we-online.de; ComponentLink2Description: Datasheet; ComponentLink2URL: https://katalog.we-online.com/pbs/datasheet/885012206091.pdf; Operating Temperature: -55 to +125degC; Packaging: Tape and Reel; Publisher: Wurth Elektronik; Rated Voltage: 50VDC; Published Date: August 2019; Capacitance Tolerance: +/-10%; Dissipation Factor: =<2.5%; Height: 0.8mm +/-0.07mm; Mounting Technology: SMD; Size: 0603; Capacitance: 22nF
footprint WCAP-CSGP_0603_Wave
footprint WCAP-CSGP_0603_Reflow
pins: 1, 2

## 885012206092
designator C?, comment 33nF, 50V
WCAP-CSGP General Purpose Ceramic Capacitors, size 0603, 33nF, +/-10%, 50VDC; Part Number: 885012206092; Isolation Resistance: >=10GOhm; Ceramic Type: X7R; Technical Reference: X7R0603333K050DFCT10000; ComponentLink1Description: Manufacturer; ComponentLink1URL: http://www.we-online.de; ComponentLink2Description: Datasheet; ComponentLink2URL: https://katalog.we-online.com/pbs/datasheet/885012206092.pdf; Operating Temperature: -55 to +125degC; Packaging: Tape and Reel; Publisher: Wurth Elektronik; Rated Voltage: 50VDC; Published Date: August 2019; Capacitance Tolerance: +/-10%; Dissipation Factor: =<2.5%; Height: 0.8mm +0.15/-0.10mm; Mounting Technology: SMD; Size: 0603; Capacitance: 33nF
footprint WCAP-CSGP_0603_Wave
footprint WCAP-CSGP_0603_Reflow
pins: 1, 2

## 885012206093
designator C?, comment 47nF, 50V
WCAP-CSGP General Purpose Ceramic Capacitors, size 0603, 47nF, +/-10%, 50VDC; Part Number: 885012206093; Isolation Resistance: >=10GOhm; Ceramic Type: X7R; Technical Reference: X7R0603473K050DFCT10000; ComponentLink1Description: Manufacturer; ComponentLink1URL: http://www.we-online.de; ComponentLink2Description: Datasheet; ComponentLink2URL: https://katalog.we-online.com/pbs/datasheet/885012206093.pdf; Operating Temperature: -55 to +125degC; Packaging: Tape and Reel; Publisher: Wurth Elektronik; Rated Voltage: 50VDC; Published Date: August 2019; Capacitance Tolerance: +/-10%; Dissipation Factor: =<3%; Height: 0.8mm +0.15/-0.10mm; Mounting Technology: SMD; Size: 0603; Capacitance: 47nF
footprint WCAP-CSGP_0603_Wave
footprint WCAP-CSGP_0603_Reflow
pins: 1, 2

## 885012206094
designator C?, comment 68nF, 50V
WCAP-CSGP General Purpose Ceramic Capacitors, size 0603, 68nF, +/-10%, 50VDC; Part Number: 885012206094; Isolation Resistance: >=7.4GOhm; Ceramic Type: X7R; Technical Reference: X7R0603683K050DFCT10000; ComponentLink1Description: Manufacturer; ComponentLink1URL: http://www.we-online.de; ComponentLink2Description: Datasheet; ComponentLink2URL: https://katalog.we-online.com/pbs/datasheet/885012206094.pdf; Operating Temperature: -55 to +125degC; Packaging: Tape and Reel; Publisher: Wurth Elektronik; Rated Voltage: 50VDC; Published Date: August 2019; Capacitance Tolerance: +/-10%; Dissipation Factor: =<3%; Height: 0.8mm +0.15/-0.10mm; Mounting Technology: SMD; Size: 0603; Capacitance: 68nF
footprint WCAP-CSGP_0603_Wave
footprint WCAP-CSGP_0603_Reflow
pins: 1, 2

## 885012206095
designator C?, comment 100nF, 50V
WCAP-CSGP General Purpose Ceramic Capacitors, size 0603, 100nF, +/-10%, 50VDC; Part Number: 885012206095; Isolation Resistance: >=5GOhm; Ceramic Type: X7R; Technical Reference: X7R0603104K050DFCT10000; ComponentLink1Description: Manufacturer; ComponentLink1URL: http://www.we-online.de; ComponentLink2Description: Datasheet; ComponentLink2URL: https://katalog.we-online.com/pbs/datasheet/885012206095.pdf; Operating Temperature: -55 to +125degC; Packaging: Tape and Reel; Publisher: Wurth Elektronik; Rated Voltage: 50VDC; Published Date: August 2019; Capacitance Tolerance: +/-10%; Dissipation Factor: =<3%; Height: 0.8mm +0.15/-0.10mm; Mounting Technology: SMD; Size: 0603; Capacitance: 100nF
footprint WCAP-CSGP_0603_Wave
footprint WCAP-CSGP_0603_Reflow
pins: 1, 2

## 885012206102
designator C?, comment 100pF, 100V
WCAP-CSGP General Purpose Ceramic Capacitors, size 0603, 100pF, +/-10%, 100VDC; Part Number: 885012206102; Isolation Resistance: >=10GOhm; Ceramic Type: X7R; Technical Reference: X7R0603101K100DFCT10000; ComponentLink1Description: Manufacturer; ComponentLink1URL: http://www.we-online.de; ComponentLink2Description: Datasheet; ComponentLink2URL: https://katalog.we-online.com/pbs/datasheet/885012206102.pdf; Operating Temperature: -55 to +125degC; Packaging: Tape and Reel; Publisher: Wurth Elektronik; Rated Voltage: 100VDC; Published Date: August 2019; Capacitance Tolerance: +/-10%; Dissipation Factor: =<2.5%; Height: 0.8mm +/-0.07mm; Mounting Technology: SMD; Size: 0603; Capacitance: 100pF
footprint WCAP-CSGP_0603_Wave
footprint WCAP-CSGP_0603_Reflow
pins: 1, 2

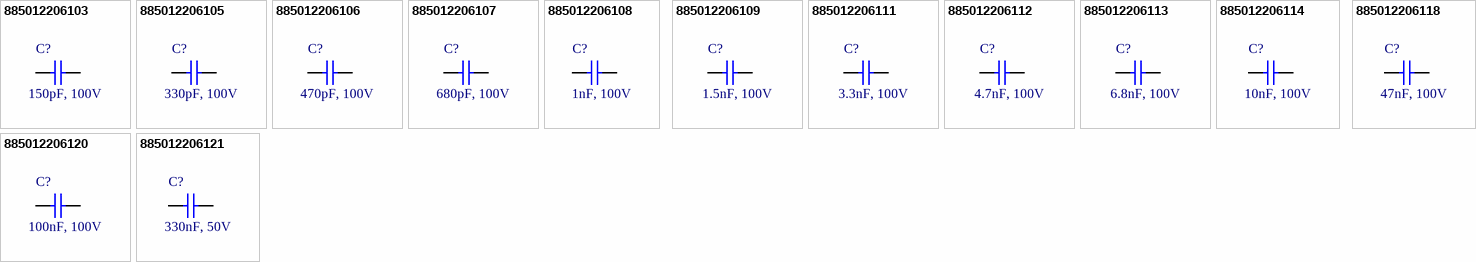
[diagram p10: symbols 885012206103 to 885012206121]

## 885012206103
designator C?, comment 150pF, 100V
WCAP-CSGP General Purpose Ceramic Capacitors, size 0603, 150pF, +/-10%, 100VDC; Part Number: 885012206103; Isolation Resistance: >=10GOhm; Ceramic Type: X7R; Technical Reference: X7R0603151K100DFCT10000; ComponentLink1Description: Manufacturer; ComponentLink1URL: http://www.we-online.de; ComponentLink2Description: Datasheet; ComponentLink2URL: https://katalog.we-online.com/pbs/datasheet/885012206103.pdf; Operating Temperature: -55 to +125degC; Packaging: Tape and Reel; Publisher: Wurth Elektronik; Rated Voltage: 100VDC; Published Date: August 2019; Capacitance Tolerance: +/-10%; Dissipation Factor: =<2.5%; Height: 0.8mm +/-0.07mm; Mounting Technology: SMD; Size: 0603; Capacitance: 150pF
footprint WCAP-CSGP_0603_Wave
footprint WCAP-CSGP_0603_Reflow
pins: 1, 2

## 885012206105
designator C?, comment 330pF, 100V
WCAP-CSGP General Purpose Ceramic Capacitors, size 0603, 330pF, +/-10%, 100VDC; Part Number: 885012206105; Isolation Resistance: >=10GOhm; Ceramic Type: X7R; Technical Reference: X7R0603331K100DFCT10000; ComponentLink1Description: Manufacturer; ComponentLink1URL: http://www.we-online.de; ComponentLink2Description: Datasheet; ComponentLink2URL: https://katalog.we-online.com/pbs/datasheet/885012206105.pdf; Operating Temperature: -55 to +125degC; Packaging: Tape and Reel; Publisher: Wurth Elektronik; Rated Voltage: 100VDC; Published Date: August 2019; Capacitance Tolerance: +/-10%; Dissipation Factor: =<2.5%; Height: 0.8mm +/-0.07mm; Mounting Technology: SMD; Size: 0603; Capacitance: 330pF
footprint WCAP-CSGP_0603_Wave
footprint WCAP-CSGP_0603_Reflow
pins: 1, 2

## 885012206106
designator C?, comment 470pF, 100V
WCAP-CSGP General Purpose Ceramic Capacitors, size 0603, 470pF, +/-10%, 100VDC; Part Number: 885012206106; Isolation Resistance: >=10GOhm; Ceramic Type: X7R; Technical Reference: X7R0603471K100DFCT10000; ComponentLink1Description: Manufacturer; ComponentLink1URL: http://www.we-online.de; ComponentLink2Description: Datasheet; ComponentLink2URL: https://katalog.we-online.com/pbs/datasheet/885012206106.pdf; Operating Temperature: -55 to +125degC; Packaging: Tape and Reel; Publisher: Wurth Elektronik; Rated Voltage: 100VDC; Published Date: August 2019; Capacitance Tolerance: +/-10%; Dissipation Factor: =<2.5%; Height: 0.8mm +/-0.07mm; Mounting Technology: SMD; Size: 0603; Capacitance: 470pF
footprint WCAP-CSGP_0603_Wave
footprint WCAP-CSGP_0603_Reflow
pins: 1, 2

## 885012206107
designator C?, comment 680pF, 100V
WCAP-CSGP General Purpose Ceramic Capacitors, size 0603, 680pF, +/-10%, 100VDC; Part Number: 885012206107; Isolation Resistance: >=10GOhm; Ceramic Type: X7R; Technical Reference: X7R0603681K100DFCT10000; ComponentLink1Description: Manufacturer; ComponentLink1URL: http://www.we-online.de; ComponentLink2Description: Datasheet; ComponentLink2URL: https://katalog.we-online.com/pbs/datasheet/885012206107.pdf; Operating Temperature: -55 to +125degC; Packaging: Tape and Reel; Publisher: Wurth Elektronik; Rated Voltage: 100VDC; Published Date: August 2019; Capacitance Tolerance: +/-10%; Dissipation Factor: =<2.5%; Height: 0.8mm +/-0.07mm; Mounting Technology: SMD; Size: 0603; Capacitance: 680pF
footprint WCAP-CSGP_0603_Wave
footprint WCAP-CSGP_0603_Reflow
pins: 1, 2

## 885012206108
designator C?, comment 1nF, 100V
WCAP-CSGP General Purpose Ceramic Capacitors, size 0603, 1nF, +/-10%, 100VDC; Part Number: 885012206108; Isolation Resistance: >=10GOhm; Ceramic Type: X7R; Technical Reference: X7R0603102K100DFCT10000; ComponentLink1Description: Manufacturer; ComponentLink1URL: http://www.we-online.de; ComponentLink2Description: Datasheet; ComponentLink2URL: https://katalog.we-online.com/pbs/datasheet/885012206108.pdf; Operating Temperature: -55 to +125degC; Packaging: Tape and Reel; Publisher: Wurth Elektronik; Rated Voltage: 100VDC; Published Date: August 2019; Capacitance Tolerance: +/-10%; Dissipation Factor: =<2.5%; Height: 0.8mm +/-0.07mm; Mounting Technology: SMD; Size: 0603; Capacitance: 1nF
footprint WCAP-CSGP_0603_Wave
footprint WCAP-CSGP_0603_Reflow
pins: 1, 2

## 885012206109
designator C?, comment 1.5nF, 100V
WCAP-CSGP General Purpose Ceramic Capacitors, size 0603, 1.5nF, +/-10%, 100VDC; Part Number: 885012206109; Isolation Resistance: >=10GOhm; Ceramic Type: X7R; Technical Reference: X7R0603152K100DFCT10000; ComponentLink1Description: Manufacturer; ComponentLink1URL: http://www.we-online.de; ComponentLink2Description: Datasheet; ComponentLink2URL: https://katalog.we-online.com/pbs/datasheet/885012206109.pdf; Operating Temperature: -55 to +125degC; Packaging: Tape and Reel; Publisher: Wurth Elektronik; Rated Voltage: 100VDC; Published Date: August 2019; Capacitance Tolerance: +/-10%; Dissipation Factor: =<2.5%; Height: 0.8mm +/-0.07mm; Mounting Technology: SMD; Size: 0603; Capacitance: 1.5nF
footprint WCAP-CSGP_0603_Wave
footprint WCAP-CSGP_0603_Reflow
pins: 1, 2

## 885012206111
designator C?, comment 3.3nF, 100V
WCAP-CSGP General Purpose Ceramic Capacitors, size 0603, 3.3nF, +/-10%, 100VDC; Part Number: 885012206111; Isolation Resistance: >=10GOhm; Ceramic Type: X7R; Technical Reference: X7R0603332K100DFCT10000; ComponentLink1Description: Manufacturer; ComponentLink1URL: http://www.we-online.de; ComponentLink2Description: Datasheet; ComponentLink2URL: https://katalog.we-online.com/pbs/datasheet/885012206111.pdf; Operating Temperature: -55 to +125degC; Packaging: Tape and Reel; Publisher: Wurth Elektronik; Rated Voltage: 100VDC; Published Date: August 2019; Capacitance Tolerance: +/-10%; Dissipation Factor: =<2.5%; Height: 0.8mm +/-0.07mm; Mounting Technology: SMD; Size: 0603; Capacitance: 3.3nF
footprint WCAP-CSGP_0603_Wave
footprint WCAP-CSGP_0603_Reflow
pins: 1, 2

## 885012206112
designator C?, comment 4.7nF, 100V
WCAP-CSGP General Purpose Ceramic Capacitors, size 0603, 4.7nF, +/-10%, 100VDC; Part Number: 885012206112; Isolation Resistance: >=10GOhm; Ceramic Type: X7R; Technical Reference: X7R0603472K100DFCT10000; ComponentLink1Description: Manufacturer; ComponentLink1URL: http://www.we-online.de; ComponentLink2Description: Datasheet; ComponentLink2URL: https://katalog.we-online.com/pbs/datasheet/885012206112.pdf; Operating Temperature: -55 to +125degC; Packaging: Tape and Reel; Publisher: Wurth Elektronik; Rated Voltage: 100VDC; Published Date: August 2019; Capacitance Tolerance: +/-10%; Dissipation Factor: =<2.5%; Height: 0.8mm +/-0.07mm; Mounting Technology: SMD; Size: 0603; Capacitance: 4.7nF
footprint WCAP-CSGP_0603_Wave
footprint WCAP-CSGP_0603_Reflow
pins: 1, 2